# EAGLE library part A3901 (library allegro-2)
Dual Full Bridge Low Voltage Motor Driver Source: www.allegromicro.com .. 3901.pdf
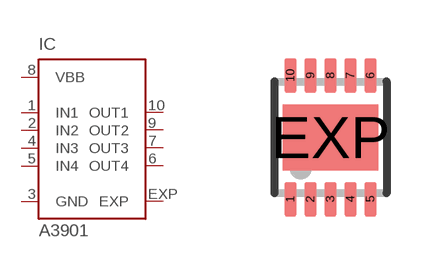
[diagram p6: symbol with the pads of DFN10-3X3; footprint DFN10-3X3]

Designator prefix IC

## A3901 (MPN: A3901SEJTR-T; OC_FARNELL: 1651947; OC_NEWARK: 87K3379)  [DFN10-3X3]
1  IN1  in
2  IN2  in
3  GND  pwr
4  IN3  in
5  IN4  in
6  OUT4  out
7  OUT3  out
8  VBB  pwr
9  OUT2  out
10  OUT1  out
EXP  EXP  pas

## Footprint DFN10-3X3 (pad centres in mm)
Package EJ, 10-contact DFN (3mm × 3mm) Source: www.allegromicro.com .. 3901.pdf
smd 0.3 x 0.85: 1 -1,-1.55; 2 -0.5,-1.55; 3 0,-1.55; 4 0.5,-1.55; 5 1,-1.55; 6 1,1.55; 7 0.5,1.55; 8 0,1.55; 9 -0.5,1.55; 10 -1,1.55
smd 2.38 x 1.65: EXP 0,0